# EAGLE library part GRID-EYE (library HedgehogLib)
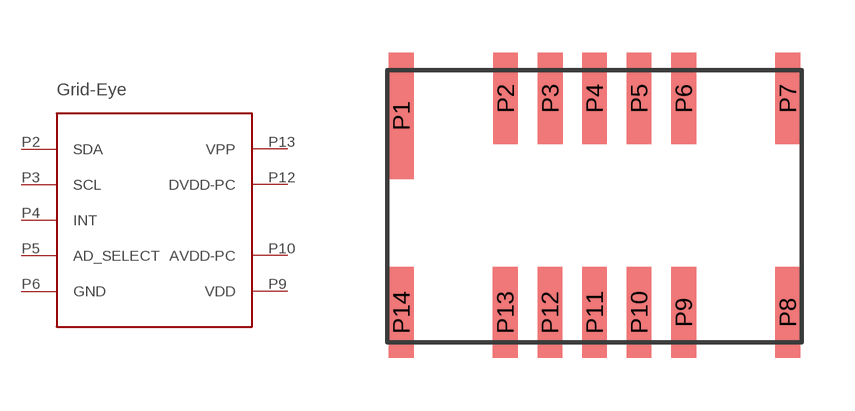
[diagram p6: symbol with the pads of GRID-EYE; footprint GRID-EYE]

Designator prefix -

## GRID-EYE  [GRID-EYE]
P2  SDA
P3  SCL
P4  INT
P5  AD_SELECT
P6  GND
P9  VDD
P10  AVDD-PC
P12  DVDD-PC
P13  VPP

## Footprint GRID-EYE (pad centres in mm)
smd 0.7 x 3.6: P1 -5.5,6.9
smd 0.7 x 2.6: P2 -2.53,7.4; P3 -1.26,7.4; P4 0,7.4; P5 1.27,7.4; P6 2.54,7.4; P7 5.5,7.4; P8 5.5,1.3; P9 2.54,1.3; P10 1.27,1.3; P11 0,1.3; P12 -1.27,1.3; P13 -2.54,1.3; P14 -5.5,1.3